# Altium schematic symbol library BAT46W-7-F.SchLib: 1 symbol
Pins are listed as number, name and electrical type; pins without a type are passive.

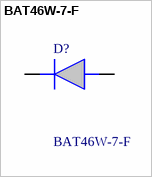
[diagram p0: symbol BAT46W-7-F]

## BAT46W-7-F
designator D?
Diodes Inc BAT46W-7-F, SMT Schottky Diode, 100V 150mA, 2-Pin SOD-123; Manufacturer_Name: Diodes Incorporated; Geometry.Height: 1.45mm; Mouser Part Number: 621-BAT46W-7-F; Mouser Price/Stock: https://www.mouser.co.uk/ProductDetail/Diodes-Incorporated/BAT46W-7-F?qs=rGAXPo9uwV28x6kF8xdfEA%3D%3D; Manufacturer_Part_Number: BAT46W-7-F; Datasheet Link: https://www.diodes.com//assets/Datasheets/BAT46W.pdf
footprint SOD3716X145N
pins: 1 K, 2 A